# Altium schematic symbol library LREG_4T_6pin.SchLib: 1 symbol
Pins are listed as number, name and electrical type; pins without a type are passive.

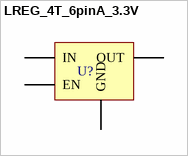
[diagram p0: symbol LREG_4T_6pinA_3.3V]

## LREG_4T_6pinA_3.3V
designator U?, comment LP5900  (value not drawn)
3.3V LDO Reg
pins: 1 OUT, 3 GND, 4 EN, 6 IN